# Altium footprint library digital_input_module.PcbLib: 11 footprints
Each footprint in its own frame and in the unit in brackets; x right, y up, seen from the top. Pads: shape width x height; smd on the part's side, far side on the other; paste and mask are expansions set on the pad; w line width, h text height; cw(c..) or ccw(c..) is an arc to the next point about the centre after c.
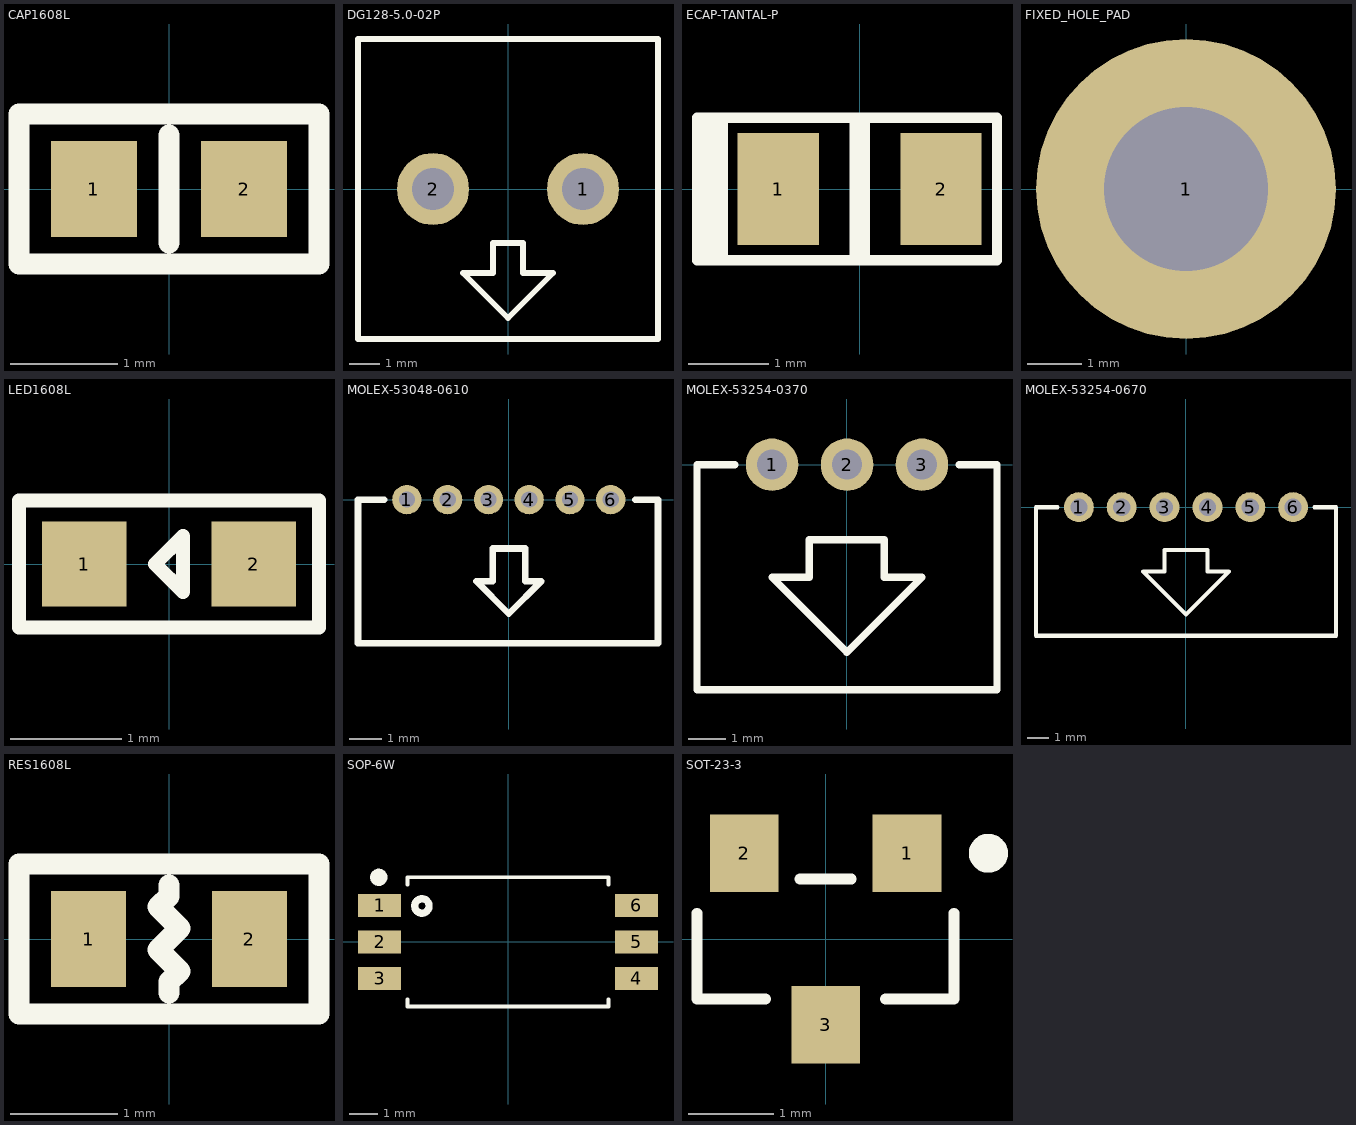
[diagram p0: the footprints below, top view; thin cyan lines are the x and y axes]

## CAP1608L [mm]
pads (2):
  rect 0.8x0.9 smd: 1(-0.7,0) 2(0.7,0)
Top Overlay:
  lines w0.2: 0,-0.5 0,0.5 ; -1.4,-0.7 -1.4,0.7 1.4,0.7 1.4,-0.7 -1.4,-0.7
3D body "User Library-CAPC1608X09.step": height 0.8, standoff 0, extent -0.8,-0.45 0.8,0.45

## DG128-5.0-02P [mm]
height 14
pads (2):
  round 2.4 hole 1.4: 1(2.5,0) 2(-2.5,0)
Top Overlay:
  lines w0.2: -5,-5 5,-5 5,5 -5,5 -5,-5 ; -1.5,-2.8 -0.5,-2.8 -0.5,-1.8 0.5,-1.8 0.5,-2.8 1.5,-2.8 0,-4.3 -1.5,-2.8
3D body: height 0.25, standoff 0, extent -4,4 -4,4
3D body "User Library-DG128-5_0-02P-14.step": height 14.1, standoff -3.5, extent -5.3,-5.2 5,5
3D body: height 0.25, standoff 0, extent -5,4 -5,4
3D body: height 0.25, standoff 0, extent -1.9,2.8 -1.9,2.8

## ECAP-TANTAL-P [mil]
pads (2):
  rect 40x55 smd: 1(-40,0) 2(40,0)
Top Overlay:
  region: -65,35 -80,35 -80,-35 -65,-35
  lines w5: -67.5,-35 67.5,-35 67.5,35 -67.5,35 ; -65,-35 -80,-35 -80,35 -65,35 ; -2.5,-35 -2.5,35 ; 2.5,-35 2.5,35
3D body: height 47.24, standoff 0, extent -80,-35 67.5,35

## FIXED_HOLE_PAD [mm]
pads (1):
  round 5.5 hole 3: 1(0,0)

## LED1608L [mil]
height 39.37
pads (2):
  rect 30x30 smd: 1(-30,0) 2(30,0)
Top Overlay:
  lines w5: -53.15,-22.5 53.15,-22.5 53.15,22.5 -53.15,22.5 -53.15,-22.5 ; -4.92,0 4.92,9.84 4.92,-9.84 -4.92,0
3D body "User Library-LED SMD0603.step": height 26.76, standoff 0.19, extent -31.79,-14.48 33.17,14.06

## MOLEX-53048-0610 [mm]
pads (6):
  round 0.9 hole 0.5: 1(-3.125,0) 2(-1.875,0) 3(-0.625,0) 4(0.625,0) 5(1.875,0) 6(3.125,0)
Top Overlay:
  lines w0.2: -3.825,0 -4.625,0 -4.625,-4.4 4.575,-4.4 4.575,0 3.875,0 ; -1,-2.5 -0.5,-2.5 -0.5,-1.5 0.5,-1.5 0.5,-2.5 1,-2.5 0,-3.5 -1,-2.5
3D body "530480610.stp": height 3.1, standoff -2.7, extent -4.65,-4.445 4.6,1.055

## MOLEX-53254-0370 [mm]
pads (3):
  round 1.4 hole 0.8: 1(-2,0) 2(0,0) 3(2,0)
Top Overlay:
  lines w0.2: -3,0 -4,0 -4,-6 4,-6 4,0 3,0 ; 0,-5 2,-3 1,-3 1,-2 -1,-2 -1,-3 -2,-3 0,-5 ; 0,-5 0,-5
3D body "532540370.stp": height 4.1, standoff -3.6, extent -3.98,-6.01 4.02,1.29

## MOLEX-53254-0670 [mm]
pads (6):
  round 1.4 hole 0.8: 1(-5,0) 2(-3,0) 3(-1,0) 4(1,0) 5(3,0) 6(5,0)
Top Overlay:
  lines w0.2: -6,0 -7,0 -7,-6 7,-6 7,0 6,0 ; 0,-5 -2,-3 -1,-3 -1,-2 1,-2 1,-3 2,-3 0,-5 ; 0,-5 0,-5
3D body "532540670.stp": height 4.1, standoff -3.6, extent -7,-6.05 7,1.25

## RES1608L [mm]
height 1
pads (2):
  rect 0.7x0.9 smd: 1(-0.75,0) 2(0.75,0)
Top Overlay:
  lines w0.2: 0,-0.5 0,-0.4 0.1,-0.3 -0.1,-0.1 0.1,0.1 -0.1,0.3 0,0.4 0,0.5 ; -1.4,-0.7 -1.4,0.7 1.4,0.7 1.4,-0.7 -1.4,-0.7
3D body "User Library-RESC1608X05N.step": height 0.45, standoff 0, extent -0.775,-0.425 0.775,0.425

## SOP-6W [mm]
pads (6):
  rect 1.5x0.8 smd: 1(-4.475,1.27) 2(-4.475,0) 3(-4.475,-1.27) 4(4.475,-1.27) 5(4.475,0) 6(4.475,1.27)
Top Overlay:
  circle w0.254: c-3,1.25 r0.25
  circle w0.2: c-4.5,2.25 r0.2
  region: -4.5,2.05 -4.54,2.05 -4.613,2.08 -4.67,2.137 -4.7,2.21 -4.7,2.25 -4.7,2.29 -4.67,2.363 -4.613,2.42 -4.54,2.45 -4.5,2.45 -4.46,2.45 -4.387,2.42 -4.33,2.363 -4.3,2.29 -4.3,2.25 -4.3,2.21 -4.33,2.137 -4.387,2.08 -4.46,2.05
  lines w0.127: -3.5,-2 -3.5,-2.25 3.5,-2.25 3.5,-2 ; -3.5,2 -3.5,2.25 3.5,2.25 3.5,2
3D body "SOP127P970X318-6N.step": height 3.18, standoff 0, extent -4.85,-2.4 4.85,2.4

## SOT-23-3 [mm]
pads (3):
  rect 0.8x0.9 smd: 1(0.95,1) 2(-0.95,1) 3(0,-1)
Top Overlay:
  circle w0.254: c1.9,1 r0.1
  lines w0.127: -1.5,0.3 -1.5,-0.7 -0.7,-0.7 ; -0.3,0.7 0.3,0.7 ; 0.7,-0.7 1.5,-0.7 1.5,0.3
3D body "User Library-SOT23-3.step": height 1.3, standoff 0, extent -1.45,-1.4 1.45,1.4